# Altium schematic symbol library Schlib1.SchLib: 3 symbols
Pins are listed as number, name and electrical type; pins without a type are passive.

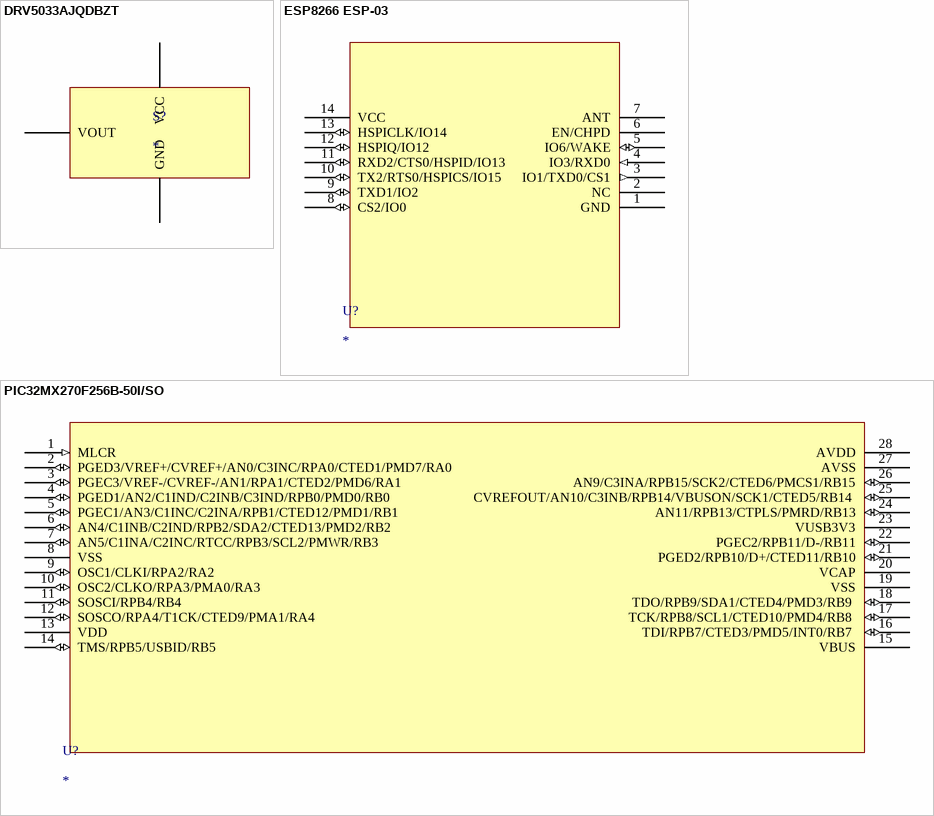
[diagram p0: symbols DRV5033AJQDBZT to PIC32MX270F256B-50I/SO]

## DRV5033AJQDBZT
designator S?
pins: 30 GND, 31 VOUT, 32 VCC

## ESP8266 ESP-03
designator U?
pins: 1 GND (power), 2 NC (power), 3 IO1/TXD0/CS1 (out), 4 IO3/RXD0 (in), 5 IO6/WAKE (io), 6 EN/CHPD (power), 7 ANT (power), 8 CS2/IO0 (io), 9 TXD1/IO2 (io), 10 TX2/RTS0/HSPICS/IO15 (io), 11 RXD2/CTS0/HSPID/IO13 (io), 12 HSPIQ/IO12 (io), 13 HSPICLK/IO14 (io), 14 VCC (power)

## PIC32MX270F256B-50I/SO
designator U?
pins: 1 MLCR (in), 2 PGED3/VREF+/CVREF+/AN0/C3INC/RPA0/CTED1/PMD7/RA0 (io), 3 PGEC3/VREF-/CVREF-/AN1/RPA1/CTED2/PMD6/RA1 (io), 4 PGED1/AN2/C1IND/C2INB/C3IND/RPB0/PMD0/RB0 (io), 5 PGEC1/AN3/C1INC/C2INA/RPB1/CTED12/PMD1/RB1 (io), 6 AN4/C1INB/C2IND/RPB2/SDA2/CTED13/PMD2/RB2 (io), 7 AN5/C1INA/C2INC/RTCC/RPB3/SCL2/PMWR/RB3 (io), 8 VSS, 9 OSC1/CLKI/RPA2/RA2 (io), 10 OSC2/CLKO/RPA3/PMA0/RA3 (io), 11 SOSCI/RPB4/RB4 (io), 12 SOSCO/RPA4/T1CK/CTED9/PMA1/RA4 (io), 13 VDD, 14 TMS/RPB5/USBID/RB5 (io), 15 VBUS, 16 TDI/RPB7/CTED3/PMD5/INT0/RB7  (io), 17 TCK/RPB8/SCL1/CTED10/PMD4/RB8  (io), 18 TDO/RPB9/SDA1/CTED4/PMD3/RB9  (io), 19 VSS, 20 VCAP, 21 PGED2/RPB10/D+/CTED11/RB10 (io), 22 PGEC2/RPB11/D-/RB11 (io), 23 VUSB3V3, 24 AN11/RPB13/CTPLS/PMRD/RB13 (io), 25 CVREFOUT/AN10/C3INB/RPB14/VBUSON/SCK1/CTED5/RB14  (io), 26 AN9/C3INA/RPB15/SCK2/CTED6/PMCS1/RB15 (io), 27 AVSS, 28 AVDD